# EAGLE library part LTC6803HG-3 (library myLib)
IC MONITOR BATT STACK MC 44-SSOP
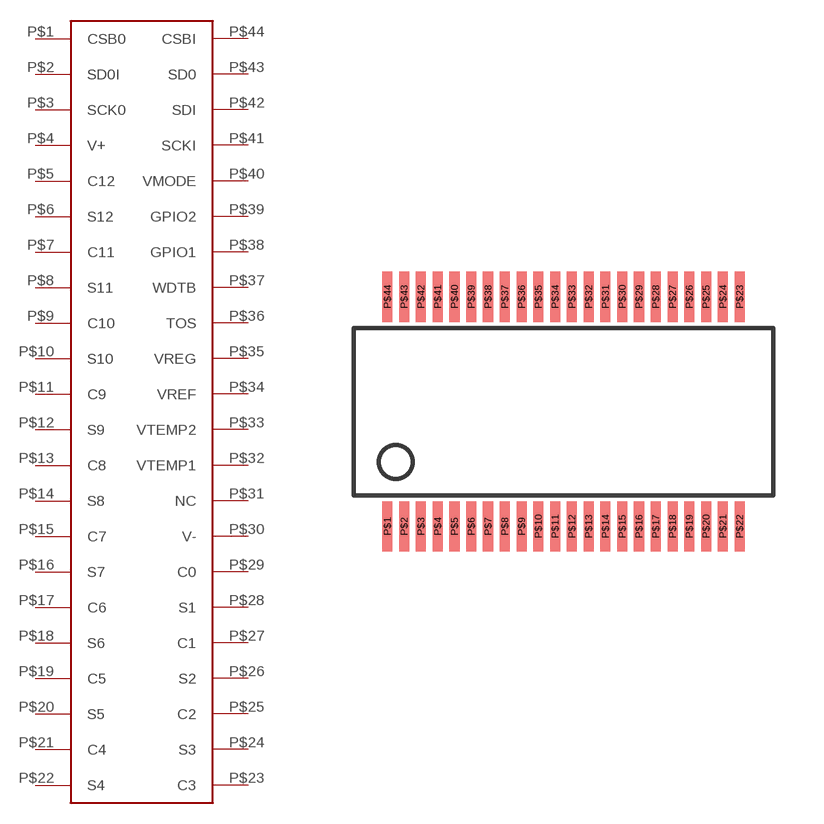
[diagram p23: symbol with the pads of 44-SSOP; footprint 44-SSOP]

Designator prefix -

## LTC6803HG-3  [44-SSOP]
P$1  CSB0
P$2  SD0I
P$3  SCK0
P$4  V+
P$5  C12
P$6  S12
P$7  C11
P$8  S11
P$9  C10
P$10  S10
P$11  C9
P$12  S9
P$13  C8
P$14  S8
P$15  C7
P$16  S7
P$17  C6
P$18  S6
P$19  C5
P$20  S5
P$21  C4
P$22  S4
P$23  C3
P$24  S3
P$25  C2
P$26  S2
P$27  C1
P$28  S1
P$29  C0
P$30  V-
P$31  NC
P$32  VTEMP1
P$33  VTEMP2
P$34  VREF
P$35  VREG
P$36  TOS
P$37  WDTB
P$38  GPIO1
P$39  GPIO2
P$40  VMODE
P$41  SCKI
P$42  SDI
P$43  SD0
P$44  CSBI

## Footprint 44-SSOP (pad centres in mm)
smd 0.3 x 1.5: P$1 -5.25,-3.425; P$2 -4.75,-3.425; P$3 -4.25,-3.425; P$4 -3.75,-3.425; P$5 -3.25,-3.425; P$6 -2.75,-3.425; P$7 -2.25,-3.425; P$8 -1.75,-3.425; P$9 -1.25,-3.425; P$10 -0.75,-3.425; P$11 -0.25,-3.425; P$12 0.25,-3.425; P$13 0.75,-3.425; P$14 1.25,-3.425; P$15 1.75,-3.425; P$16 2.25,-3.425; P$17 2.75,-3.425; P$18 3.25,-3.425; P$19 3.75,-3.425; P$20 4.25,-3.425; P$21 4.75,-3.425; P$22 5.25,-3.425; P$23 5.25,3.425; P$24 4.75,3.425; P$25 4.25,3.425; P$26 3.75,3.425; P$27 3.25,3.425; P$28 2.75,3.425; P$29 2.25,3.425; P$30 1.75,3.425; P$31 1.25,3.425; P$32 0.75,3.425; P$33 0.25,3.425; P$34 -0.25,3.425; P$35 -0.75,3.425; P$36 -1.25,3.425; P$37 -1.75,3.425; P$38 -2.25,3.425; P$39 -2.75,3.425; P$40 -3.25,3.425; P$41 -3.75,3.425; P$42 -4.25,3.425; P$43 -4.75,3.425; P$44 -5.25,3.425